# EAGLE library part IMAXX_H7810_KFZ_FUSE_HOLDER_3X (library own_parts2)
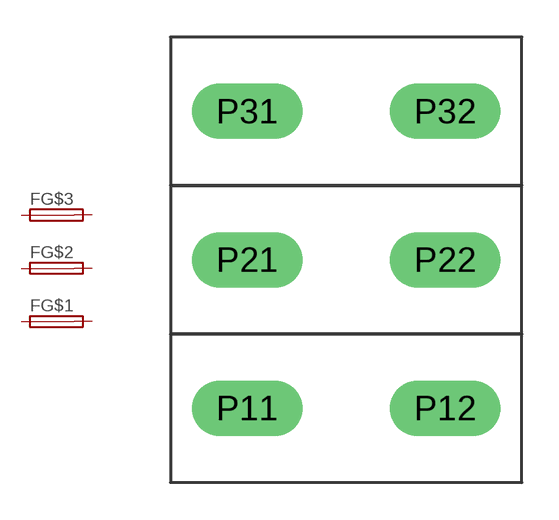
[diagram p10: symbol with the pads of H7810_KFZFUSE_3X; footprint H7810_KFZFUSE_3X]

Designator prefix F; gates G$1=FUSE_MULTI-1 G$2=FUSE_MULTI-1 G$3=FUSE_MULTI

## IMAXX_H7810_KFZ_FUSE_HOLDER_3X  [H7810_KFZFUSE_3X]
P11  G$1:1  pas
P12  G$1:2  pas
P21  G$2:1  pas
P22  G$2:2  pas
P31  G$3:1  pas
P32  G$3:2  pas

## Footprint H7810_KFZFUSE_3X (pad centres in mm)
drill 1.5 long: P11 0,0; P12 8,0; P21 0,6; P22 8,6; P31 0,12; P32 8,12